# Altium integrated library 1N5819-G.IntLib: 1 symbol
Pins are listed as number, name and electrical type; pins without a type are passive.

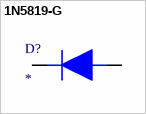
[diagram p0: symbol 1N5819-G]

## 1N5819-G
designator D?
Diode,Schottky Barrier,Vr 40V,If 1A,Pkg CASE 59-10,Vf 0.6V,Tj +125degc,Cs 25A | ON Semiconductor 1N5819G; SnapEDA_Link: https://www.snapeda.com/parts/1N5819G/Onsemi/view-part/?ref=snap; Package: DO-41 onsemi; Value: *; MF: ON Semiconductor; MP: 1N5819G; Check_prices: https://www.snapeda.com/parts/1N5819G/Onsemi/view-part/?ref=eda
footprint DIOAD1405W75L465D235
pins: 1 K (io), 2 A (io)